# Altium schematic symbol library AD7680ARMZ.SchLib: 1 symbol
Pins are listed as number, name and electrical type; pins without a type are passive.

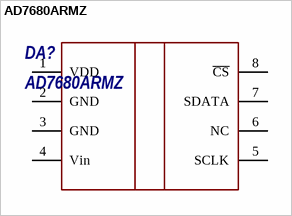
[diagram p0: symbol AD7680ARMZ]

## AD7680ARMZ
designator DA?
pins: 1 VDD, 2 GND, 3 GND, 4 Vin, 5 SCLK, 6 NC, 7 SDATA, 8 ~{CS}